# Altium footprint library PTS526SK15SMTR2LFS.PcbLib: 1 footprints
Each footprint in its own frame and in the unit in brackets; x right, y up, seen from the top. Pads: shape width x height; smd on the part's side, far side on the other; paste and mask are expansions set on the pad; w line width, h text height; cw(c..) or ccw(c..) is an arc to the next point about the centre after c.
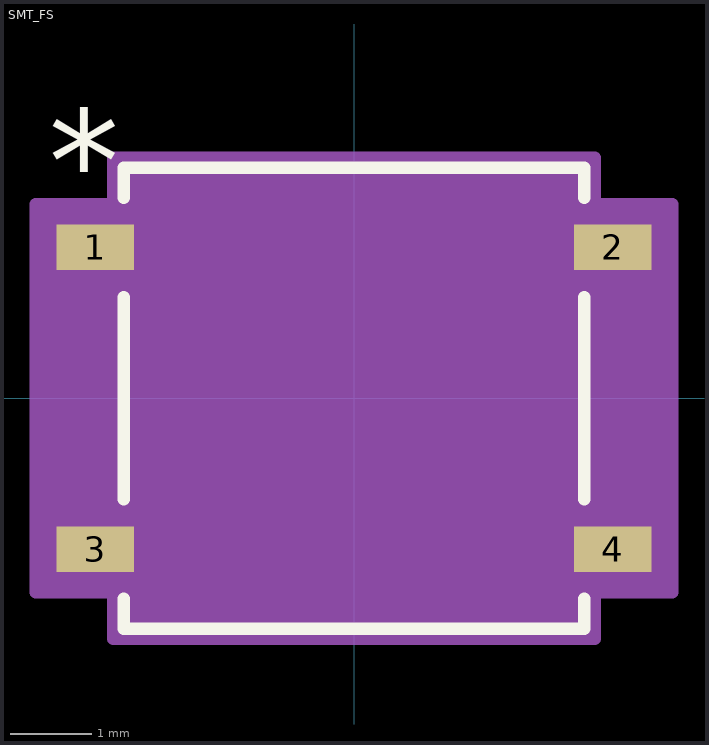
[diagram p0: the footprint, top view; thin cyan lines are the x and y axes]

## SMT_FS [mil]
pads (4):
  rect 37.5x22 smd paste+0 mask+0: 1(-125.25,73) 2(125.25,73) 3(-125.25,-73) 4(125.25,-73)
Top Overlay:
  lines w6: -111.5,-97.1 -111.5,-111.5 111.5,-111.5 111.5,-97.1 ; -111.5,-48.9 -111.5,48.9 ; -111.5,97.1 -111.5,111.5 111.5,111.5 111.5,97.1 ; 111.5,-48.9 111.5,48.9
  text "*" at -147.75,90 h50
Mechanical 13:
  lines w0: -12,106.5 ccw(c0,106.5) 12,106.5
  lines w1: -130,-83 -130,-63 -106.5,-63 -106.5,-83 -130,-83 ; -130,63 -130,83 -106.5,83 -106.5,63 -130,63 ; -106.5,-106.5 106.5,-106.5 106.5,106.5 -106.5,106.5 -106.5,-106.5 ; 106.5,-83 106.5,-63 130,-63 130,-83 106.5,-83 ; 106.5,63 106.5,83 130,83 130,63 106.5,63
  text "*" at -104,53.5 h50
Mechanical 15:
  region: -116.5,-94 -154,-94 -154,94 -116.5,94 -116.5,116.5 116.5,116.5 116.5,94 154,94 154,-94 116.5,-94 116.5,-116.5 -116.5,-116.5
  lines w6: -154,-94 -154,94 -116.5,94 -116.5,116.5 116.5,116.5 116.5,94 154,94 154,-94 116.5,-94 116.5,-116.5 -116.5,-116.5 -116.5,-94 -154,-94